# Altium footprint library MT_Device.PcbLib: 67 footprints (part 4 of 5)
Each footprint in its own frame and in the unit in brackets; x right, y up, seen from the top. Pads: shape width x height; smd on the part's side, far side on the other; paste and mask are expansions set on the pad; w line width, h text height; cw(c..) or ccw(c..) is an arc to the next point about the centre after c.
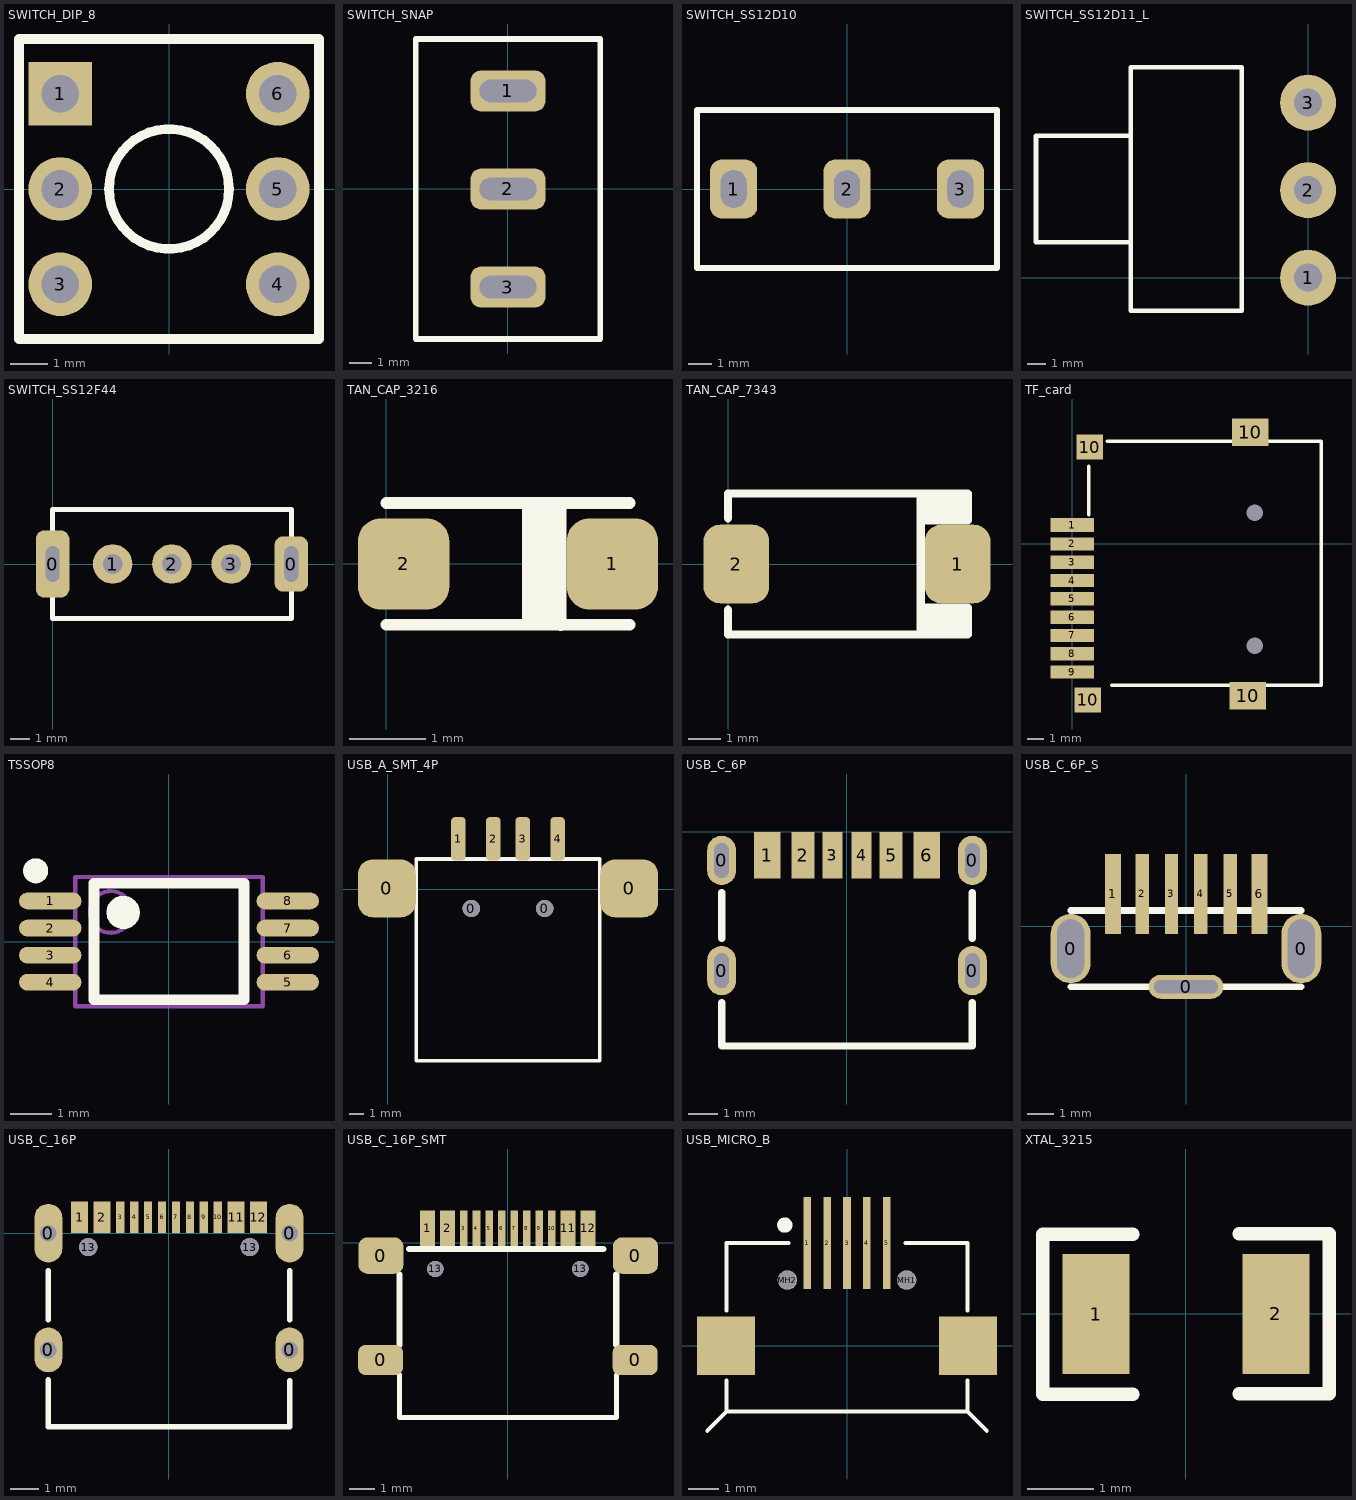
[diagram p3: the footprints below, top view; thin cyan lines are the x and y axes]

## SWITCH_DIP_8 [mm]
pads (6):
  rect 1.7x1.7 hole 1: 1(-2.9,2.54)
  round 1.7 hole 1: 2(-2.9,0) 3(-2.9,-2.54) 4(2.9,-2.54) 5(2.9,0) 6(2.9,2.54)
Top Overlay:
  circle w0.254: c0,0 r1.6
  lines w0.254: -4,-4 -4,4 4,4 4,-4 -4,-4
3D body "Toggle Button (8.1 x 8.1 x 13.5mm).stp": height 13.54, standoff -3.23, extent -3.95,-3.937 3.95,3.937

## SWITCH_SNAP [mm]
pads (3):
  rrect50% 3.3x1.8 hole 1 slot 2.5 at 0 deg: 1(0,4.318) 2(0,0) 3(0,-4.318)
Top Overlay:
  lines w0.254: -4.064,-6.604 0,-6.604 4.064,-6.604 4.064,6.604 0,6.604 -4.064,6.604 -4.064,-6.604
3D body "Eledis 1A11-NF1STSE SPDT Toggle Switch.stp": height 28.72, standoff -3.44, extent -5.563,-6.33 5.434,6.37

## SWITCH_SS12D10 [mm]
pads (3):
  rrect50% 2x2.5 hole 1.1 slot 1.6 at 90 deg: 1(-4.8,0) 2(0,0) 3(4.8,0)
Top Overlay:
  lines w0.254: -6.35,-3.35 6.35,-3.35 6.35,3.35 -6.35,3.35 -6.35,-3.35
3D body "SS-12D10L4.STEP": height 10.2, standoff -6.9, extent -6.5,-3.4 6.5,3.4

## SWITCH_SS12D11_L [mm]
pads (3):
  round 3 hole 1.5: 1(0,0) 2(0,4.699) 3(0,9.398)
Top Overlay:
  lines w0.254: -9.525,7.62 -14.605,7.62 -14.605,1.905 -9.525,1.905 -9.525,-1.778 ; -9.525,-1.778 -9.525,11.303 -3.556,11.303 -3.556,4.699 -3.556,-1.778 -9.525,-1.778

## SWITCH_SS12F44 [mm]
pads (5):
  rrect50% 1.7x3.4 hole 0.7 slot 1.8 at 90 deg: 0(0,0)
  rrect50% 1.7x2.8 hole 0.7 slot 1.8 at 90 deg: 0(12.1,0)
  round 2 hole 1: 1(3.045,0) 2(6.045,0) 3(9.045,0)
Top Overlay:
  lines w0.254: 0,-2.75 12.1,-2.75 12.1,0 12.1,2.75 0,2.75 0,0 0,-2.75

## TAN_CAP_3216 [mm]
pads (2):
  rrect50% 1.2x1.2 smd: 1(2.972,0) 2(0.229,0)
Top Overlay:
  lines w0.152: 0,-0.8 3.2,-0.8 ; 0,0.8 3.2,0.8 ; 1.863,-0.802 1.863,0.798 ; 2.008,-0.802 2.008,0.798 ; 2.153,-0.802 2.153,0.798 ; 2.296,-0.803 2.296,0.797
3D body "S 3216-12.step": height 1.11, standoff 0, extent -0.01,-0.8 3.19,0.8

## TAN_CAP_7343 [mm]
pads (2):
  rrect50% 2x2.4 smd: 1(6.995,0) 2(0.254,0)
Top Overlay:
  lines w0.254: 0,-1.397 0,-2.15 7.3,-2.15 7.3,-1.336 5.873,-1.336 ; 0,1.397 0,2.15 7.3,2.15 7.3,1.336 5.873,1.336 ; 5.873,-2.15 5.873,-1.336 ; 5.873,2.15 5.873,1.336 ; 6.076,-2.15 6.076,-1.336 ; 6.076,1.336 6.076,2.15 ; 6.315,-2.15 6.315,-1.336 ; 6.315,1.336 6.315,2.15 ; 6.477,-2.135 6.477,-1.336 ; 6.477,2.15 6.477,1.351 6.492,1.336 ; 6.68,-2.15 6.68,-1.336 ; 6.68,1.336 6.68,2.15 ; 6.858,-2.15 6.858,-1.336 ; 6.858,1.336 6.858,2.15 ; 7.061,-2.15 7.061,-1.336 ; 7.061,1.336 7.061,2.15 ; 5.873,-1.336 5.873,1.336
3D body "V 7343-20.step": height 1.81, standoff 0, extent -0.005,-2.14 7.295,2.16

## TF_card [mm]
pads (15):
  rect 2.6x0.85 smd: 1(0,1.141)
  rect 2.6x0.8 smd: 2(0,0) 3(0,-1.103) 4(0,-2.206) 5(0,-3.309) 6(0,-4.412) 7(0,-5.516) 8(0,-6.619) 9(0,-7.722)
  rect 1.6x1.524 smd: 10(0.928,-9.4) 10(1.055,5.84)
  rect 2.2x1.651 smd: 10(10.58,-9.146) 10(10.707,6.729)
  round 0 hole 1: 11(11,1.878) 12(11,-6.122)
Top Overlay:
  lines w0.203: 1,1.749 1,4.67 ; 2.11,6.178 15,6.178 15,-8.522 2.364,-8.522
3D body "User Library-Micro_SD_Socket_Push-push.STEP": height 1.85, standoff -0.6, extent -0.003,-9.22 15,6.88

## TSSOP8 [mm]
pads (8):
  oval 1.5x0.4 smd mask+0.051: 1(-2.85,0.975) 2(-2.85,0.325) 3(-2.85,-0.325) 4(-2.85,-0.975) 5(2.85,-0.975) 6(2.85,-0.325) 7(2.85,0.325) 8(2.85,0.975)
Top Overlay:
  circle w0.4: c-1.1,0.7 r0.2
  circle w0.3: c-3.2,1.7 r0.15
  lines w0.254: -1.8,-1.4 1.8,-1.4 1.8,1.4 -1.8,1.4 -1.8,-1.4
Mechanical 13:
  circle w0.1: c-1.4,0.711 r0.5
  lines w0.1: -2.25,-1.55 2.25,-1.55 2.25,1.55 -2.25,1.55 -2.25,-1.55

## USB_A_SMT_4P [mm]
pads (8):
  rrect50% 4x4 smd: 0(-0.045,0.068) 0(16.719,0.068)
  round 1.2 hole 1.2: 0(5.797,-1.329) 0(10.877,-1.329)
  rrect50% 1x3 smd: 1(4.908,3.497) 2(7.321,3.497) 3(9.353,3.497) 4(11.766,3.497)
Top Overlay:
  lines w0.254: 1.987,-11.87 1.987,2.1 14.687,2.1 14.687,-11.87 1.987,-11.87
3D body "USB Onboard.STEP": height 7.5, standoff -0.5, extent 0.13,-11.34 16.53,4.27

## USB_C_6P [mm]
pads (10):
  oval 1x1.7 hole 0.5 slot 1.2 at 90 deg: 0(-4.32,-4.78) 0(-4.32,-0.98) 0(4.32,-4.78) 0(4.32,-0.98)
  rect 0.9x1.6 smd: 1(-2.75,-0.8) 6(2.75,-0.8)
  rect 0.8x1.6 smd: 2(-1.52,-0.8) 5(1.52,-0.8)
  rect 0.7x1.6 smd: 3(-0.5,-0.8) 4(0.5,-0.8)
Top Overlay:
  lines w0.254: -4.32,-5.89 -4.32,-7.38 4.32,-7.38 4.32,-5.89 ; -4.32,-3.67 -4.32,-2.09 ; 4.32,-3.67 4.32,-2.09
3D body "USB Connector Type C female 6pin.STEP": height 3.3, standoff -0.92, extent -4.47,-7.38 4.47,-0.51

## USB_C_6P_S [mm]
pads (9):
  oval 1.5x2.6 hole 2.2 slot 1 at 0 deg: 0(-4.325,-0.83) 0(4.325,-0.83)
  oval 2.8x0.9 hole 0.5 slot 2.4 at 0 deg: 0(0,-2.26)
  rect 0.6x3 smd: 1(-2.746,1.222) 6(2.754,1.222)
  rect 0.5x3 smd: 2(-1.646,1.222) 3(-0.546,1.222) 4(0.554,1.222) 5(1.654,1.222)
Top Overlay:
  lines w0.254: -4.325,-2.26 4.325,-2.26 ; -4.325,0.6 4.325,0.6
3D body "TypeC6Pin9.3H.STEP": height 9.3, standoff -1.2, extent -4.475,-2.33 4.475,0.81

## USB_C_16P [mm]
pads (18):
  oval 1x1.6 hole 0.6 square: 0(-4.32,-4.18) 0(4.32,-4.18)
  oval 1x2.1 hole 0.6 square: 0(-4.32,0) 0(4.32,0)
  rect 0.6x1.14 smd: 1(-3.2,0.57) 2(-2.4,0.57) 11(2.4,0.57) 12(3.2,0.57)
  rect 0.3x1.14 smd: 3(-1.75,0.57) 4(-1.25,0.57) 5(-0.75,0.57) 6(-0.25,0.57) 7(0.25,0.57) 8(0.75,0.57) 9(1.25,0.57) 10(1.75,0.57)
  round 0.65 hole 0.65: 13(-2.89,-0.5) 13(2.89,-0.5)
Top Overlay:
  lines w0.2: -4.32,-6.925 4.32,-6.925 4.32,-5.28 ; -4.32,-6.9 -4.32,-5.255 ; -4.316,-3.1 -4.316,-1.345 ; 4.32,-3.1 4.32,-1.345

## USB_C_16P_SMT [mm]
pads (18):
  rrect50% 1.8x1.2 smd: 0(-5.07,-4.677) 0(5.07,-4.677)
  rrect50% 1.8x1.45 smd: 0(-5.06,-0.519) 0(5.08,-0.519)
  rect 0.6x1.4 smd: 1(-3.2,0.57) 2(-2.4,0.57) 11(2.4,0.57) 12(3.2,0.57)
  rect 0.3x1.4 smd: 3(-1.75,0.57) 4(-1.25,0.57) 5(-0.75,0.57) 6(-0.25,0.57) 7(0.25,0.57) 8(0.75,0.57) 9(1.25,0.57) 10(1.75,0.57)
  round 0.65 hole 0.65: 13(-2.888,-1.049) 13(2.888,-1.049)
Top Overlay:
  lines w0.2: -4.32,-5.255 -4.32,-6.96 4.32,-6.96 4.32,-5.28
  lines w0.254: -4.318,-4.064 -4.318,-1.27 ; -3.937,-0.254 3.81,-0.254 ; 4.318,-4.064 4.318,-1.27
3D body "USB_type_C_smd.STEP": height 3.2, standoff -0.7, extent -5.5,-7.3 5.5,0.55

## USB_MICRO_B [mm]
pads (9):
  rect 0.25x3 smd: 1(-1.3,3.349) 2(-0.65,3.349) 3(0,3.349) 4(0.65,3.349) 5(1.3,3.349)
  round 0.635 hole 0.6 unplated: MH1(1.95,2.14) MH2(-1.95,2.14)
  rect 1.9x1.9 smd: ""(-3.95,-0.009) ""(3.95,-0.009)
Top Overlay:
  circle w0.25: c-2.032,3.935 r0.125
  lines w0.127: -4.567,-2.789 -3.937,-2.159 -3.937,-1.143 ; -3.937,1.143 -3.937,3.349 ; -3.9,-2.159 3.9,-2.159 ; -3.9,3.349 -1.905,3.349 ; 1.905,3.349 3.9,3.349 ; 3.937,-1.143 3.937,-2.159 4.567,-2.789 ; 3.937,1.143 3.937,3.349
3D body "USB_micro_smd_1.stp": height 2.65, standoff -0.6, extent -4.031,-2.159 4.031,3.041

## XTAL_3215 [mm]
pads (2):
  rect 1x1.8 smd: 1(-1.348,-0.003) 2(1.349,0.003)
Top Overlay:
  lines w0.2: -0.793,-1.203 -2.148,-1.203 -2.148,1.197 -0.793,1.197 ; 0.794,-1.197 2.149,-1.197 2.149,1.203 0.794,1.203
3D body "EPSON_SG-3030CM.STEP": height 0.9, standoff 0, extent -1.601,-0.751 1.601,0.751